# Altium integrated library SS14.IntLib: 1 symbol
Pins are listed as number, name and electrical type; pins without a type are passive.

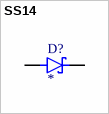
[diagram p0: symbol SS14]

## SS14
designator D?
1A, 40V, Schottky Rectifier; MF: Taiwan Semiconductor; MP: SS14; SnapEDA_Link: https://www.snapeda.com/parts/SS14/taiwan/view-part/?ref=snap; Package: SMA-2 Taiwan Semiconductor; Value: *; Check_prices: https://www.snapeda.com/parts/SS14/taiwan/view-part/?ref=eda
footprint DIOM4325X250N
pins: A, C K